# Altium schematic symbol library PCB_Project1.SCHLIB: 19 symbols
Pins are listed as number, name and electrical type; pins without a type are passive.

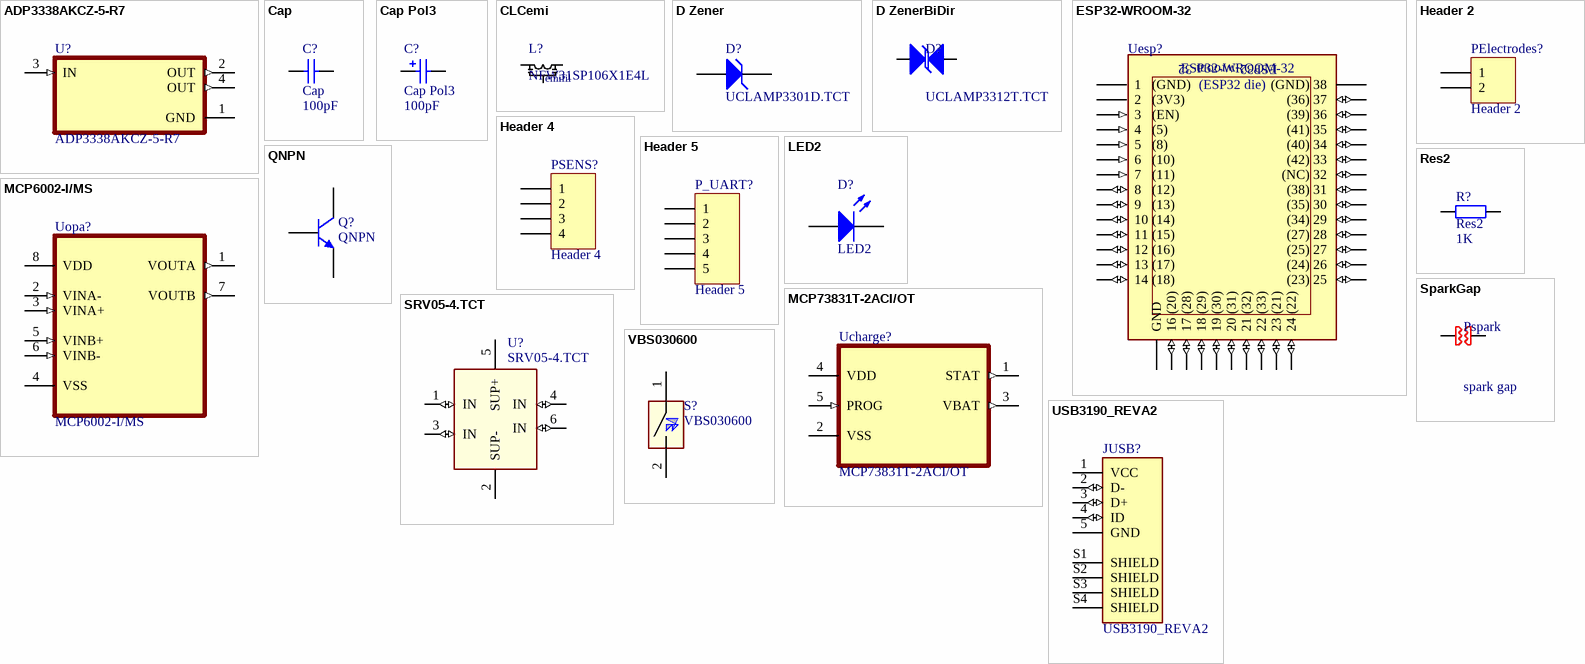
[diagram p0: symbols ADP3338AKCZ-5-R7 to VBS030600]

## ADP3338AKCZ-5-R7
designator U?
Package: None; Price: None; Value: *; MP: ADP3338AKCZ-5-R7; Availability: Unavailable
footprint SOT230P700X180-4N
pins: 1 GND (power), 2 OUT (out), 3 IN (in), 4 OUT (out)

## Cap
designator C?  value 100pF
Capacitor; Published: 8-Jun-2000; LatestRevisionDate: 17-Jul-2002; LatestRevisionNote: Re-released for DXP Platform.; PackageReference: RAD-0.3; Publisher: Altium Limited; PackageDescription: Radial Cap, Thru-Hole; 2 Leads; 0.3 in Pin Spacing
footprint RAD-0.3 (Radial Cap, Thru-Hole; 2 Leads; 0.3 in Pin Spacing)
simulation model CAP (Capacitor)
signal-integrity model Cap
footprint C1206 (Chip Capacitor, Body 3.2x1.6mm, IPC High Density)
pins: 1, 2

## Cap Pol3
designator C?  value 100pF
Polarized Capacitor (Surface Mount); Published: 8-Jun-2000; LatestRevisionDate: 29-May-2009; LatestRevisionNote: IPC-7351 Footprint Added.; PackageReference: C0805; Publisher: Altium Limited; PackageDescription: Chip Capacitor
footprint C0805 (Chip Capacitor, Body 2.0x1.3mm, IPC High Density)
footprint 1812 (Chip Capacitor, Body 4.5x3.2mm, IPC High Density)
footprint 1825 (Chip Capacitor, Body 4.5x6.4mm, IPC High Density)
footprint C2225 (Chip Capacitor, Body 5.7x6.4mm, IPC High Density)
footprint 2220 (Chip Capacitor, Body 5.7x5.0mm, IPC High Density)
simulation model CAP (Capacitor)
signal-integrity model Cap Pol
footprint c1206 (Chip Capacitor, Body 3.2x1.6mm, IPC High Density)
pins: 1, 2
1 alternate drawing of the same symbol

## CLCemi
designator L?, comment NFW31SP106X1E4L  value emifil
CLCemi; Code_IEC: 1005; Published: 8-Jun-2000; LatestRevisionDate: 29-May-2009; LatestRevisionNote: IPC-7351 Footprint Added.; PackageReference: 0402-A; Publisher: Altium Limited; PackageDescription: Chip Inductor; Code_JEITA: 0402
footprint 1206 CLC emifil (1206 shape 3 pin CLC EMIFIL chip, e.g. NFW31SP series)
pins: 1, 2 (power), 3

## D Zener
designator D?, comment UCLAMP3301D.TCT
Zener Diode; Published: 8-Jun-2000; LatestRevisionDate: 17-Jul-2002; LatestRevisionNote: Re-released for DXP Platform.; PackageReference: DIODE-0.7; Publisher: Altium Limited; PackageDescription: Diode, Thru-Hole; 2 Leads; 0.7 in Pin Spacing
footprint DIODE-0.7 (Diode, Thru-Hole; 2 Leads; 0.7 in Pin Spacing)
simulation model ZENER (Diode)
signal-integrity model D Zener
footprint C1210
footprint 1206 CLC emifil (1206 shape 3 pin CLC EMIFIL chip, e.g. NFW31SP series)
pins: 1 A, 2 K

## D ZenerBiDir
designator D?, comment UCLAMP3312T.TCT
Zener Diode; Published: 8-Jun-2000; LatestRevisionDate: 17-Jul-2002; LatestRevisionNote: Re-released for DXP Platform.; PackageReference: DIODE-0.7; Publisher: Altium Limited; PackageDescription: Diode, Thru-Hole; 2 Leads; 0.7 in Pin Spacing
footprint DIODE-0.7 (Diode, Thru-Hole; 2 Leads; 0.7 in Pin Spacing)
simulation model ZENER (Diode)
signal-integrity model D Zener
footprint C1210
footprint 1206 CLC emifil (1206 shape 3 pin CLC EMIFIL chip, e.g. NFW31SP series)
pins: 1 A, 2 K

## ESP32-WROOM-32
designator Uesp?
Bluetooth, WiFi Transceiver Module 2.4GHz ~ 2.5GHz Surface Mount; MF: Espressif Systems; Package: Module Espressif Systems; Digi-Key_Part_Number: 1904-1010-1-ND; Digi-Key_Purchase_URL: https://www.digikey.com/product-detail/en/espressif-systems/ESP32-WROOM-32/1904-1010-1-ND/8544305?utm_source=snapeda&utm_medium=aggregator&utm_campaign=symbol; Value: *; MP: ESP32-WROOM-32; SnapEDA_Link: https://www.snapeda.com/parts/ESP32-WROOM-32/Espressif%20Systems/view-part/2753322/?ref=snap; Pin Description: https://gzhls.at/blob/ldb/1/b/3/9/ce458f9742b549ee683216c160d28abea52e.pdf
footprint MODULE_ESP32-WROOM-32
pins: 1 1   (GND) (power), 2 2   (3V3) (power), 3 3   (EN) (in), 4 4   (5) (in), 5 5   (8) (in), 6 6   (10) (in), 7 7   (11) (in), 8 8   (12) (io), 9 9   (13) (io), 10 10 (14) (io), 11 11 (15) (io), 12 12 (16) (io), 13 13 (17) (io), 14 14 (18) (io), 15 GND (power), 16 16 (20) (io), 17 17 (28) (io), 18 18 (29) (io), 19 19 (30) (io), 20 20 (31) (io), 21 21 (32) (io), 22 22 (33) (io), 23 23 (21) (io), 24 24 (22) (io), 25 (23) 25 (io), 26 (24) 26 (io), 27 (25) 27 (io), 28 (27) 28 (io), 29 (34) 29 (io), 30 (35) 30 (io), 31 (38) 31 (io), 32 (NC) 32 (io), 33 (42) 33 (io), 34 (40) 34 (io), 35 (41) 35 (io), 36 (39) 36 (io), 37 (36) 37 (io), 38 (GND) 38 (power)
text: ESP32-wroom-32; (ESP32 die)

## Header 2
designator PElectrodes?
Header, 2-Pin; LatestRevisionDate: 17-Jul-2002; LatestRevisionNote: Re-released for DXP Platform.; Publisher: Altium Limited
footprint HDR1X2 (Connector; Header; 2 Position)
signal-integrity model Connector
pins: 1, 2

## Header 4
designator PSENS?
Header, 4-Pin; LatestRevisionDate: 17-Jul-2002; LatestRevisionNote: Re-released for DXP Platform.; Publisher: Altium Limited
footprint HDR1X4 (Connector; Header; 4 Position)
signal-integrity model Connector
pins: 1, 2, 3, 4

## Header 5
designator P_UART?
Header, 5-Pin; LatestRevisionDate: 17-Jul-2002; LatestRevisionNote: Re-released for DXP Platform.; Publisher: Altium Limited
footprint HDR1X5 (Connector; Header; 5 Position)
signal-integrity model Connector
pins: 1, 2, 3, 4, 5

## LED2
designator D?
Typical RED, GREEN, YELLOW, AMBER GaAs LED; Published: 8-Jun-2000; LatestRevisionDate: 17-Jul-2002; LatestRevisionNote: Re-released for DXP Platform.; PackageVersion: Feb-2002; PackageReference: 3.2X1.6X1.1; Publisher: Altium Limited; PackageDescription: SM LED; 2 Flat Leads
footprint 3.2X1.6X1.1 (SMT LED; 2 Flat Leads)
simulation model LED2 (Diode)
footprint C1206 (Chip Capacitor, Body 3.2x1.6mm, IPC High Density)
pins: 1 A, 2 K

## MCP6002-I/MS
designator Uopa?
General Purpose Amplifier 2 Circuit Rail-to-Rail 8-MSOP; MF: Microchip; MP: MCP6002-I/MS; SnapEDA_Link: https://www.snapeda.com/parts/MCP6002-I/MS/Microchip/view-part/1037315/?ref=snap; Price: None; Package: MSOP-8 Microchip; Availability: Unavailable; Value: *
footprint SOP65P490X110-8N
pins: 1 VOUTA (out), 2 VINA- (in), 3 VINA+ (in), 4 VSS (power), 5 VINB+ (in), 6 VINB- (in), 7 VOUTB (out), 8 VDD (power)

## MCP73831T-2ACI/OT
designator Ucharge?
Charger IC Lithium Ion/Polymer SOT-23-5; MF: Microchip; MP: MCP73831T-2ACI/OT; SnapEDA_Link: https://www.snapeda.com/parts/MCP73831T-2ACI/OT/Microchip/view-part/53208/?ref=snap; Availability: Unavailable; Package: SOT-23 Microchip; Value: *; Price: None
footprint SOT95P280X145-5N
pins: 1 STAT (out), 2 VSS (power), 3 VBAT (out), 4 VDD (power), 5 PROG (in)

## QNPN
designator Q?
NPN Bipolar Transistor; Published: 8-Jun-2000; LatestRevisionDate: 29-May-2009; LatestRevisionNote: IPC-7351 Footprint Added.; PackageVersion: Aug-1999; PackageReference: SOT-23B; Publisher: Altium Limited; PackageDescription: 3-Pin SOT-23 Package 0.95 mm Pitch, 2.4 mm Lead Span
footprint SOT-23B_N (SOT23, 3-Leads, Body 2.9x1.3mm, Pitch 0.95mm, Lead Span 2.4mm, IPC Medium Density)
footprint SOT-23B_L (SOT23, 3-Leads, Body 2.9x1.3mm, Pitch 0.95mm, Lead Span 2.4mm, IPC High Density)
footprint SOT-23B_M (SOT23, 3-Leads, Body 2.9x1.3mm, Pitch 0.95mm, Lead Span 2.4mm, IPC Low Density)
simulation model QNPN (NPN)
signal-integrity model NPN
pins: 1 C, 2 B, 3 E

## Res2
designator R?  value 1K
Resistor; Published: 8-Jun-2000; LatestRevisionDate: 17-Jul-2002; LatestRevisionNote: Re-released for DXP Platform.; PackageReference: AXIAL-0.4; Publisher: Altium Limited; PackageDescription: Axial Device, Thru-Hole; 2 Leads; 0.4 in Pin Spacing
footprint AXIAL-0.4 (Axial Device, Thru-Hole; 2 Leads; 0.4 in Pin Spacing)
simulation model RESISTOR (Resistor)
signal-integrity model Res
footprint C1206 (Chip Capacitor, Body 3.2x1.6mm, IPC High Density)
pins: 1, 2

## SparkGap
designator Pspark, comment spark gap
footprint HDR1X2 (Connector; Header; 2 Position)
signal-integrity model Connector
footprint SPARKGAP10 (Footprint not found)
pins: 1, 2

## SRV05-4.TCT
designator U?
17.5V Clamp 12A _8/20µs_ Ipp Tvs Diode Surface Mount SOT-23-6; MF: Semtech; MP: SRV05-4.TCT; Availability: Unavailable; SnapEDA_Link: https://www.snapeda.com/parts/SRV05-4.TCT/Semtech%20Corporation/view-part/13991/?ref=snap; Package: SOT-23 Semtech; Value: *; Price: None
footprint SOT95P280X145-6N
pins: 1 IN (io), 2 SUP- (power), 3 IN (io), 4 IN (io), 5 SUP+ (power), 6 IN (io)

## USB3190_REVA2
designator JUSB?
MICRO B SKT VERT MID MOUNT H=3.9; MF: Global Connector Technology; Value: *; MP: USB3190; Package: None; Availability: Unavailable; Check_prices: https://www.snapeda.com/parts/USB3190/Global%20Connector%20Technology/view-part/5506587/?ref=eda; SnapEDA_Link: https://www.snapeda.com/parts/USB3190/Global%20Connector%20Technology/view-part/5506587/?ref=snap; Price: None
footprint GCT_USB3190_REVA2
pins: 1 VCC (power), 2 D- (io), 3 D+ (io), 4 ID (io), 5 GND (power), S1 SHIELD, S2 SHIELD, S3 SHIELD, S4 SHIELD

## VBS030600
designator S?
footprint VBS030600
pins: 1 IN (oc), 2 IN (oc)